# Altium footprint library capacitor_smd.PcbLib: 120 footprints (part 6 of 8)
Each footprint in its own frame and in the unit in brackets; x right, y up, seen from the top. Pads: shape width x height; smd on the part's side, far side on the other; paste and mask are expansions set on the pad; w line width, h text height; cw(c..) or ccw(c..) is an arc to the next point about the centre after c.
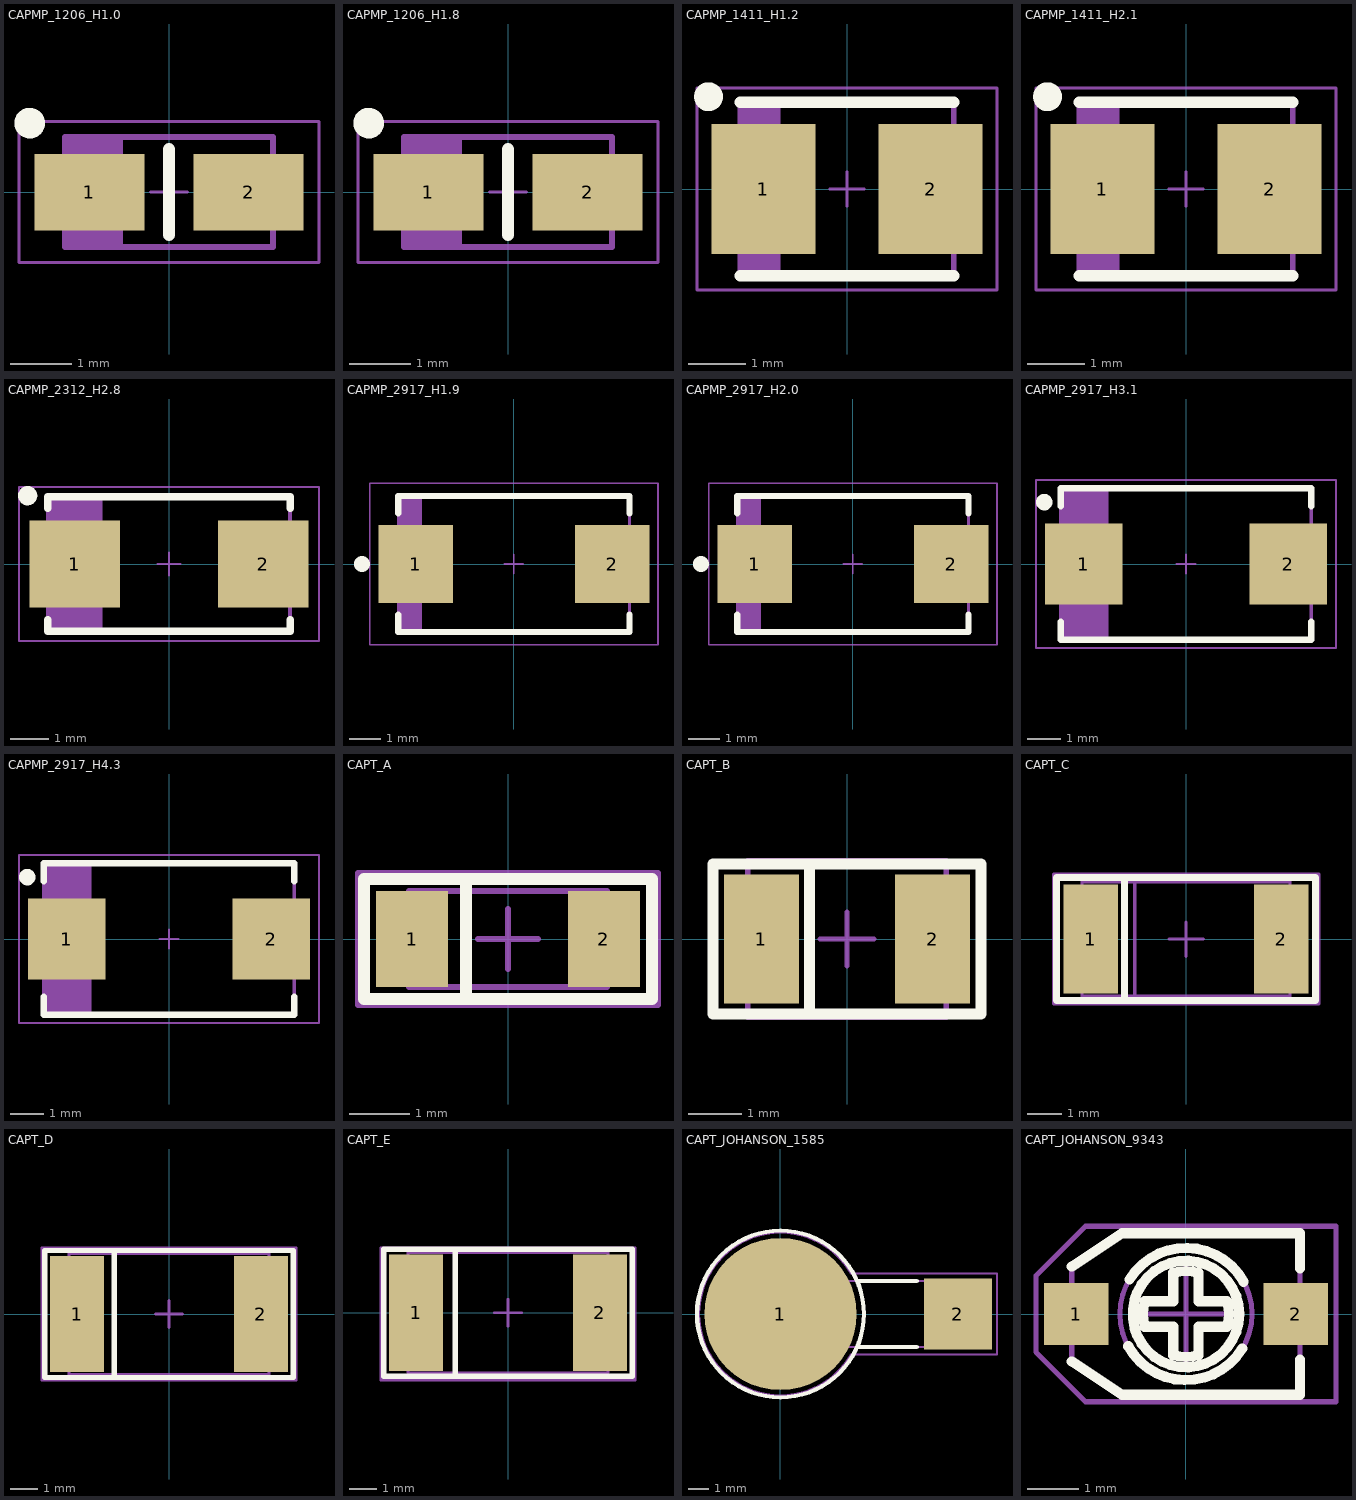
[diagram p5: the footprints below, top view; thin cyan lines are the x and y axes]

## CAPMP_1206_H1.0 [mm] "Capacitor, Polarized, Molded  Body 3.2x1.6mm, IPC Medium Density"
height 1
pads (2):
  rect 1.8x1.25 smd: 1(-1.3,0) 2(1.3,0)
Top Overlay:
  circle w0.25: c-2.275,1.125 r0.125
  lines w0.2: 0,-0.7 0,0.7
Mechanical 1:
  lines w0.1: -1.625,-0.9 -1.625,0.9 ; -1.55,-0.9 -1.55,0.9 ; -1.475,-0.9 -1.475,0.9 ; -1.4,-0.9 -1.4,0.9 ; -1.325,-0.9 -1.325,0.9 ; -1.25,-0.9 -1.25,0.9 ; -1.175,-0.9 -1.175,0.9 ; -1.1,-0.9 -1.1,0.9 ; -1.025,-0.9 -1.025,0.9 ; -0.95,-0.9 -0.95,0.9 ; -0.875,-0.9 -0.875,0.9 ; -1.7,-0.9 -1.7,0.9 1.7,0.9 1.7,-0.9 -1.7,-0.9 ; -0.8,-0.9 -0.8,0.9 -0.8,-0.9
Mechanical 15:
  lines w0.05: -0.3,0 0.3,0 ; 0,-0.3 0,0.3 ; -2.45,-1.15 -2.45,1.15 2.45,1.15 2.45,-1.15 -2.45,-1.15
3D body "CAPMP3216X100N.stp": height 1, standoff 0, extent -1.7,-0.883 1.7,0.884

## CAPMP_1206_H1.8 [mm] "Capacitor, Polarized, Molded  Body 3.2x1.6mm, IPC Medium Density"
height 1.8
pads (2):
  rect 1.8x1.25 smd: 1(-1.3,0) 2(1.3,0)
Top Overlay:
  circle w0.25: c-2.275,1.125 r0.125
  lines w0.2: 0,-0.7 0,0.7
Mechanical 1:
  lines w0.1: -1.625,-0.9 -1.625,0.9 ; -1.55,-0.9 -1.55,0.9 ; -1.475,-0.9 -1.475,0.9 ; -1.4,-0.9 -1.4,0.9 ; -1.325,-0.9 -1.325,0.9 ; -1.25,-0.9 -1.25,0.9 ; -1.175,-0.9 -1.175,0.9 ; -1.1,-0.9 -1.1,0.9 ; -1.025,-0.9 -1.025,0.9 ; -0.95,-0.9 -0.95,0.9 ; -0.875,-0.9 -0.875,0.9 ; -1.7,-0.9 1.7,-0.9 1.7,0.9 -1.7,0.9 -1.7,-0.9 ; -0.8,-0.9 -0.8,0.9 -0.8,-0.9
Mechanical 15:
  lines w0.05: -0.3,0 0.3,0 ; 0,-0.3 0,0.3 ; -2.45,-1.15 -2.45,1.15 2.45,1.15 2.45,-1.15 -2.45,-1.15
3D body "CAPMP3216X180N.stp": height 1.6, standoff 0, extent -1.7,-0.9 1.7,0.9

## CAPMP_1411_H1.2 [mm] "Capacitor, Polarized, Molded  Body 3.5x2.8mm, IPC Medium Density"
height 1.2
pads (2):
  rect 1.8x2.25 smd: 1(-1.45,0) 2(1.45,0)
Top Overlay:
  circle w0.25: c-2.4,1.6 r0.125
  lines w0.2: -1.85,-1.5 1.85,-1.5 ; -1.85,1.5 1.85,1.5
Mechanical 1:
  lines w0.1: -1.8,-1.5 -1.8,1.5 ; -1.725,-1.5 -1.725,1.5 ; -1.65,-1.5 -1.65,1.5 ; -1.575,-1.5 -1.575,1.5 ; -1.5,-1.5 -1.5,1.5 ; -1.425,-1.5 -1.425,1.5 ; -1.35,-1.5 -1.35,1.5 ; -1.275,-1.5 -1.275,1.5 ; -1.2,-1.5 -1.2,1.5 ; -1.85,-1.5 1.85,-1.5 1.85,1.5 -1.85,1.5 -1.85,-1.5
Mechanical 15:
  lines w0.05: -0.3,0 0.3,0 ; 0,-0.3 0,0.3 ; -2.6,-1.75 -2.6,1.75 2.6,1.75 2.6,-1.75 -2.6,-1.75
3D body "CAPMP3528X120N.stp": height 1.2, standoff 0, extent -1.85,-1.5 1.85,1.5

## CAPMP_1411_H2.1 [mm] "Capacitor, Polarized, Molded  Body 3.5x2.8mm, IPC Medium Density"
height 2.1
pads (2):
  rect 1.8x2.25 smd: 1(-1.45,0) 2(1.45,0)
Top Overlay:
  circle w0.25: c-2.4,1.6 r0.125
  lines w0.2: -1.85,-1.5 1.85,-1.5 ; -1.85,1.5 1.85,1.5
Mechanical 1:
  lines w0.1: -1.8,-1.5 -1.8,1.5 ; -1.725,-1.5 -1.725,1.5 ; -1.65,-1.5 -1.65,1.5 ; -1.575,-1.5 -1.575,1.5 ; -1.5,-1.5 -1.5,1.5 ; -1.425,-1.5 -1.425,1.5 ; -1.35,-1.5 -1.35,1.5 ; -1.275,-1.5 -1.275,1.5 ; -1.2,-1.5 -1.2,1.5 ; -1.85,-1.5 1.85,-1.5 1.85,1.5 -1.85,1.5 -1.85,-1.5
Mechanical 15:
  lines w0.05: -0.3,0 0.3,0 ; 0,-0.3 0,0.3 ; -2.6,-1.75 -2.6,1.75 2.6,1.75 2.6,-1.75 -2.6,-1.75
3D body "CAPMP3528X210N.stp": height 2.1, standoff 0, extent -1.85,-1.5 1.85,1.5

## CAPMP_2312_H2.8 [mm] "Capacitor, Polarized, Molded  Body 6.0x3.2mm, IPC Medium Density"
height 2.8
pads (2):
  rect 2.35x2.25 smd: 1(-2.45,0) 2(2.45,0)
Top Overlay:
  circle w0.25: c-3.675,1.775 r0.125
  lines w0.2: -3.15,-1.45 -3.15,-1.75 3.15,-1.75 3.15,-1.45 ; -3.15,1.45 -3.15,1.75 3.15,1.75 3.15,1.45
Mechanical 1:
  lines w0.1: -3.05,-1.725 -3.05,1.75 ; -2.975,-1.725 -2.975,1.75 ; -2.9,-1.725 -2.9,1.75 ; -2.825,-1.725 -2.825,1.75 ; -2.75,-1.725 -2.75,1.75 ; -2.675,-1.725 -2.675,1.75 ; -2.6,-1.725 -2.6,1.75 ; -2.525,-1.725 -2.525,1.75 ; -2.45,-1.725 -2.45,1.75 ; -2.375,-1.725 -2.375,1.75 ; -2.3,-1.725 -2.3,1.75 ; -2.225,-1.725 -2.225,1.75 ; -2.15,-1.725 -2.15,1.75 ; -2.075,-1.725 -2.075,1.75 ; -2,-1.725 -2,1.75 ; -1.925,-1.725 -1.925,1.75 ; -1.85,-1.725 -1.85,1.75 ; -1.775,-1.725 -1.775,1.75 ; -3.15,-1.725 3.15,-1.725 3.15,1.75 -3.15,1.75 -3.15,-1.725
Mechanical 15:
  lines w0.05: -0.3,0 0.3,0 ; 0,-0.3 0,0.3 ; -3.9,-2 -3.9,2 3.9,2 3.9,-2 -3.9,-2
3D body "CAPMP6032X280N.stp": height 2.8, standoff 0, extent -3.15,-1.75 3.15,1.75

## CAPMP_2917_H1.9 [mm] "Capacitor, Polarized, Molded  Body 7.3x4.3mm, IPC Medium Density"
height 1.9
pads (2):
  rect 2.35x2.45 smd: 1(-3.1,0) 2(3.1,0)
Top Overlay:
  circle w0.25: c-4.8,0 r0.125
  lines w0.2: -3.65,-1.6 -3.65,-2.15 3.65,-2.15 3.65,-1.6 ; -3.65,1.6 -3.65,2.15 3.65,2.15 3.65,1.6
Mechanical 1:
  lines w0.1: -3.55,-2.15 -3.55,2.15 ; -3.45,-2.15 -3.45,2.15 ; -3.35,-2.15 -3.35,2.15 ; -3.25,-2.15 -3.25,2.15 ; -3.15,-2.15 -3.15,2.15 ; -3.05,-2.15 -3.05,2.15 ; -2.95,-2.15 -2.95,2.15 ; -3.65,-2.15 -3.65,2.15 ; -3.65,-2.15 -3.65,2.15 ; -3.65,-2.15 3.65,-2.15 3.65,2.15 -3.65,2.15
Mechanical 15:
  lines w0.05: -0.3,0 0.3,0 ; 0,-0.3 0,0.3 ; -4.55,-2.55 -4.55,2.55 4.55,2.55 4.55,-2.55 -4.55,-2.55
3D body "CAPMP7343X190N.stp": height 1.9, standoff 0, extent -3.8,-2.3 3.8,2.3

## CAPMP_2917_H2.0 [mm] "Capacitor, Polarized, Molded  Body 7.3x4.3mm, IPC Medium Density"
height 2
pads (2):
  rect 2.35x2.45 smd: 1(-3.1,0) 2(3.1,0)
Top Overlay:
  circle w0.25: c-4.8,0 r0.125
  lines w0.2: -3.65,-1.6 -3.65,-2.15 3.65,-2.15 3.65,-1.6 ; -3.65,1.6 -3.65,2.15 3.65,2.15 3.65,1.6
Mechanical 1:
  lines w0.1: -3.55,-2.15 -3.55,2.15 ; -3.45,-2.15 -3.45,2.15 ; -3.35,-2.15 -3.35,2.15 ; -3.25,-2.15 -3.25,2.15 ; -3.15,-2.15 -3.15,2.15 ; -3.05,-2.15 -3.05,2.15 ; -2.95,-2.15 -2.95,2.15 ; -3.65,-2.15 3.65,-2.15 3.65,2.15 -3.65,2.15 ; -3.65,-2.15 -3.65,2.15 ; -3.65,-2.15 -3.65,2.15
Mechanical 15:
  lines w0.05: -0.3,0 0.3,0 ; 0,-0.3 0,0.3 ; -4.55,-2.55 4.55,-2.55 4.55,2.55 -4.55,2.55 -4.55,-2.55
3D body "CAPMP7343X200N.stp": height 2, standoff 0, extent -3.8,-2.3 3.8,2.3

## CAPMP_2917_H3.1 [mm] "Capacitor, Polarized, Molded  Body 7.3x4.3mm, IPC Medium Density"
height 3.1
pads (2):
  rect 2.35x2.45 smd: 1(-3.1,0) 2(3.1,0)
Top Overlay:
  circle w0.25: c-4.3,1.875 r0.125
  lines w0.2: -3.8,-1.75 -3.8,-2.3 3.8,-2.3 3.8,-1.75 ; -3.8,1.75 -3.8,2.3 3.8,2.3 3.8,1.75
Mechanical 1:
  lines w0.1: -3.75,-2.3 -3.75,2.3 ; -3.675,-2.3 -3.675,2.3 ; -3.6,-2.3 -3.6,2.3 ; -3.525,-2.3 -3.525,2.3 ; -3.45,-2.3 -3.45,2.3 ; -3.375,-2.3 -3.375,2.3 ; -3.3,-2.3 -3.3,2.3 ; -3.225,-2.3 -3.225,2.3 ; -3.15,-2.3 -3.15,2.3 ; -3.075,-2.3 -3.075,2.3 ; -3,-2.3 -3,2.3 ; -2.925,-2.3 -2.925,2.3 ; -2.85,-2.3 -2.85,2.3 ; -2.775,-2.3 -2.775,2.3 ; -2.7,-2.3 -2.7,2.3 ; -2.625,-2.3 -2.625,2.3 ; -2.55,-2.3 -2.55,2.3 ; -2.475,-2.3 -2.475,2.3 ; -2.4,-2.3 -2.4,2.3 ; -3.8,-2.3 3.8,-2.3 3.8,2.3 -3.8,2.3 -3.8,-2.3
Mechanical 15:
  lines w0.05: -0.3,0 0.3,0 ; 0,-0.3 0,0.3 ; -4.55,-2.55 -4.55,2.55 4.55,2.55 4.55,-2.55 -4.55,-2.55
3D body "CAPMP7343X310N.stp": height 3.1, standoff 0, extent -3.8,-2.3 3.8,2.3

## CAPMP_2917_H4.3 [mm] "Capacitor, Polarized, Molded  Body 7.3x4.3mm, IPC Medium Density"
height 4.3
pads (2):
  rect 2.35x2.45 smd: 1(-3.1,0) 2(3.1,0)
Top Overlay:
  circle w0.25: c-4.3,1.875 r0.125
  lines w0.2: -3.8,-1.75 -3.8,-2.3 3.8,-2.3 3.8,-1.75 ; -3.8,1.75 -3.8,2.3 3.8,2.3 3.8,1.75
Mechanical 1:
  lines w0.1: -3.7,-2.3 -3.7,2.3 ; -3.625,-2.3 -3.625,2.3 ; -3.55,-2.3 -3.55,2.3 ; -3.475,-2.3 -3.475,2.3 ; -3.4,-2.3 -3.4,2.3 ; -3.325,-2.3 -3.325,2.3 ; -3.25,-2.3 -3.25,2.3 ; -3.175,-2.3 -3.175,2.3 ; -3.1,-2.3 -3.1,2.3 ; -3.025,-2.3 -3.025,2.3 ; -2.95,-2.3 -2.95,2.3 ; -2.875,-2.3 -2.875,2.3 ; -2.8,-2.3 -2.8,2.3 ; -2.725,-2.3 -2.725,2.3 ; -2.65,-2.3 -2.65,2.3 ; -2.575,-2.3 -2.575,2.3 ; -2.5,-2.3 -2.5,2.3 ; -2.4,-2.3 -2.4,2.3 ; -3.8,-2.3 3.8,-2.3 3.8,2.3 -3.8,2.3 -3.8,-2.3
Mechanical 15:
  lines w0.05: -0.3,0 0.3,0 ; 0,-0.3 0,0.3 ; -4.55,-2.55 4.55,-2.55 4.55,2.55 -4.55,2.55 -4.55,-2.55
3D body "CAPMP7343X430N.stp": height 4.3, standoff 0, extent -3.8,-2.3 3.8,2.3

## CAPT_A [mm]
height 1.6
pads (2):
  rect 1.2x1.6 smd: 1(-1.6,0) 2(1.6,0)
Top Overlay:
  lines w0.2: -0.7,-1 -0.7,1 ; -2.4,-1 2.4,-1 2.4,1 -2.4,1 -2.4,-1
Mechanical 1:
  lines w0.1: -0.7,-0.8 -0.7,0.8 ; -1.651,-0.8 1.651,-0.8 1.651,0.8 -1.651,0.8 -1.651,-0.8
Mechanical 15:
  lines w0.1: -0.5,0 0.5,0 ; 0,-0.5 0,0.5 ; -2.5,-1.1 -2.5,1.1 2.5,1.1 2.5,-1.1 -2.5,-1.1
3D body "User Library-AVX_ACASE.STEP": height 1.71, standoff 0, extent -1.7,-0.84 1.7,0.84

## CAPT_B [mm]
height 1.9
pads (2):
  rect 1.4x2.4 smd: 1(-1.6,0) 2(1.6,0)
Top Overlay:
  lines w0.2: -0.7,-1.4 -0.7,1.3 ; -2.5,-1.4 -2.5,1.4 2.5,1.4 2.5,-1.4 -2.5,-1.4
Mechanical 1:
  lines w0.1: -0.7,-1.465 -0.7,1.465 ; -1.85,-1.465 -1.85,1.465 1.85,1.465 1.85,-1.465 -1.85,-1.465
Mechanical 15:
  lines w0.1: -0.5,0 0.5,0 ; 0,-0.5 0,0.5 ; -2.5,-1.4 2.5,-1.4 2.5,1.4 -2.5,1.4 -2.5,-1.4
3D body "User Library-AVX_BCASE.STEP": height 2.03, standoff 0, extent -1.85,-1.465 1.85,1.465

## CAPT_C [mm]
height 2.5
pads (2):
  rect 1.6x3.2 smd: 1(-2.8,0) 2(2.8,0)
Top Overlay:
  lines w0.2: -1.8,-1.8 -1.8,1.8 ; -3.8,-1.8 3.8,-1.8 3.8,1.8 -3.8,1.8 -3.8,-1.8
Mechanical 1:
  lines w0.1: -1.5,-1.675 -1.5,1.675 ; -3.05,-1.675 -3.05,1.675 3.05,1.675 3.05,-1.675 -3.05,-1.675
Mechanical 15:
  lines w0.1: -0.5,0 0.5,0 ; 0,-0.5 0,0.5 ; -3.875,-1.9 -3.875,1.9 3.9,1.9 3.9,-1.9 -3.875,-1.9
3D body "User Library-AVX_C_CASE.STEP": height 2.7, standoff 0, extent -3.05,-1.675 3.05,1.675

## CAPT_D [mm]
height 2.9
pads (2):
  rect 2x4.3 smd: 1(-3.4,0) 2(3.4,0)
Top Overlay:
  lines w0.2: -2.025,-2.35 -2.025,2.35 ; -4.6,-2.35 4.6,-2.35 4.6,2.35 -4.6,2.35 -4.6,-2.35
Mechanical 1:
  lines w0.1: -2.025,-2.225 -2.025,2.225 ; -3.7,-2.225 -3.7,2.225 3.7,2.225 3.7,-2.225 -3.7,-2.225
Mechanical 15:
  lines w0.1: -0.5,0 0.5,0 ; 0,-0.5 0,0.5 ; -4.7,-2.45 -4.7,2.45 4.7,2.45 4.7,-2.45 -4.7,-2.45
3D body "User Library-AVX_D_CASE.STEP": height 3.01, standoff 0, extent -3.7,-2.225 3.7,2.225

## CAPT_E [mm]
height 2.9
pads (2):
  rect 2x4.3 smd: 1(-3.4,0) 2(3.4,0)
Top Overlay:
  lines w0.2: -1.95,-2.325 -1.95,2.325 ; -4.6,-2.35 -4.6,2.35 4.6,2.35 4.6,-2.35 -4.6,-2.35
Mechanical 1:
  lines w0.1: -1.95,-2.225 -1.95,2.225 ; -3.7,-2.225 -3.7,2.225 3.7,2.225 3.7,-2.225 -3.7,-2.225
Mechanical 15:
  lines w0.1: -0.5,0 0.5,0 ; 0,-0.5 0,0.5 ; -4.7,-2.5 4.7,-2.5 4.7,2.4 -4.7,2.4 -4.7,-2.5
3D body "User Library-AVX_E_CASE.STEP": height 4.2, standoff 0, extent -3.7,-2.225 3.7,2.225

## CAPT_JOHANSON_1585 [mm] "JOHANSON 1585, >8 Turn Trimmer Air Capacitor, Body D 7.11 x H 14.78mm"
height 14.78
pads (2):
  round 7.3 smd: 1(0,0)
  rect 3.25x3.4 smd: 2(8.509,0)
Top Overlay:
  circle w0.2: c0,0 r4
  lines w0.2: 3.671,-1.587 6.534,-1.587 ; 3.671,1.587 6.534,1.587
Mechanical 1:
  circle w0.1: c0,0 r3.556
  circle w0.1: c0,0 r2.675
  circle w0.1: c0,0 r2.205
  lines w0.1: -1.813,1.247 1.247,-1.813 ; -1.247,1.813 1.813,-1.247 ; 3.182,-1.587 9.97,-1.587 9.97,1.587 3.182,1.587
Mechanical 15:
  lines w0.1: -0.5,0 0,0 ; 0,-0.5 0,0 ; 0,0.5 0,0 ; 0.5,0 0,0 ; 3.377,-1.95 cw(c0,0) 3.377,1.95 10.384,1.95 10.384,-1.95 3.377,-1.95
3D body "CAPV_JOHANSON_1585.stp": height 14.48, standoff 0, extent -3.556,-3.554 9.97,3.554

## CAPT_JOHANSON_9343 [mil] "JOHANSON 9343 Serie, Single Turn Trimmer Capacitor, Body 4.49x3.175mm"
height 70.08
pads (2):
  rect 50x48 smd: 1(-85,0) 2(85,0)
Top Overlay:
  circle w7.87: c0,0 r41.23
  lines w7.87: -88.39,-36.67 -49.41,-62.5 88.39,-62.5 88.39,-35.43 ; -88.39,36.67 -49.41,62.5 88.39,62.5 88.39,35.43 ; -44.66,-25.01 ccw(c0,0) 43.62,-26.77 ; -43.62,26.77 cw(c0,0) 44.66,25.01 ; -31.87,-9.84 cw(c0,0) -31.87,9.84 -9.84,9.84 -9.84,31.87 cw(c0,0) 9.84,31.87 9.84,9.84 31.87,9.84 cw(c0,0) 31.87,-9.84 9.84,-9.84 9.84,-31.87 cw(c0,0) -9.84,-31.87 -9.84,-9.84 -31.87,-9.84
Mechanical 1:
  circle w3.94: c0,0 r41.23
  circle w3.94: c0,0 r51.18
  lines w3.94: -72.64,-15.5 -88.39,-15.5 -88.39,15.5 -72.64,15.5 ; -31.87,-9.84 -9.84,-9.84 -9.84,-31.87 ccw(c0,0) 9.84,-31.87 9.84,-9.84 31.87,-9.84 ; -31.87,9.84 -9.84,9.84 -9.84,31.87 cw(c0,0) 9.84,31.87 9.84,9.84 31.87,9.84 ; 72.64,-15.5 88.39,-15.5 88.39,15.5 72.64,15.5 ; 31.87,-9.84 ccw(c0,0) 31.87,9.84 ; 31.87,-9.84 ccw(c0,0) 31.87,9.84 ; -88.39,-36.67 -49.41,-62.5 88.39,-62.5 88.39,-19.69 72.64,-19.69 72.64,19.69 88.39,19.69 88.39,62.5 -49.41,62.5 -88.39,36.67 -88.39,19.69 -72.64,19.69 -72.64,-19.69 -88.39,-19.69 -88.39,-36.67
Mechanical 15:
  lines w3.94: -39.37,0 0,0 ; 0,-39.37 0,0 ; 0,39.37 0,0 ; 39.37,0 0,0 ; -116.04,-29.53 -77.65,-67.91 116.14,-67.91 116.14,67.91 -77.76,67.91 -116.04,29.63 -116.04,-29.53
3D body "CAPV_JOHANSON_9343.stp": height 70, standoff 0, extent -88.38,-62.5 88.39,62.5